# EAGLE library part NKK_4PDT (library Sam-lib_test)
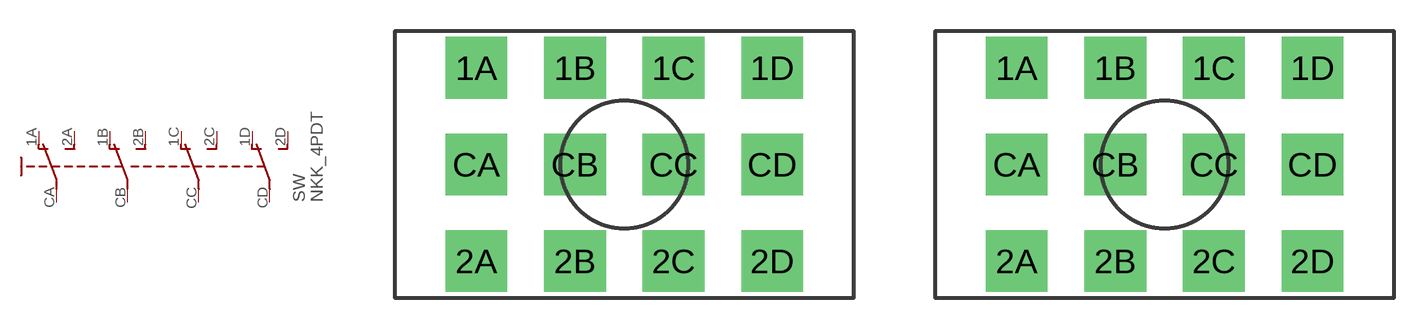
[diagram p2: symbol with the pads of NKK_4PDT; footprints NKK_4PDT, NKK_4PDT_PINS]

Designator prefix SW

## NKK_4PDTLUGS  [NKK_4PDT]
1A  1A  pas
1B  1B  pas
1C  1C  pas
1D  1D  pas
2A  2A  pas
2B  2B  pas
2C  2C  pas
2D  2D  pas
CA  CA  pas
CB  CB  pas
CC  CC  pas
CD  CD  pas

## NKK_4PDTPINS  [NKK_4PDT_PINS]
Pads as for NKK_4PDT

## Footprint NKK_4PDT (pad centres in mm)
TOGGLE SWITCH distributor RS Components
drill 2 pad 3 square: 1A -7.2,4.7; 1B -2.4,4.7; 1C 2.4,4.7; 1D 7.2,4.7; 2A -7.2,-4.7; 2B -2.4,-4.7; 2C 2.4,-4.7; 2D 7.2,-4.7; CA -7.2,0; CB -2.4,0; CC 2.4,0; CD 7.2,0

## Footprint NKK_4PDT_PINS (pad centres in mm)
TOGGLE SWITCH distributor RS Components
drill 2 pad 3 square: 1A -7.2,4.7; 1B -2.4,4.7; 1C 2.4,4.7; 1D 7.2,4.7; 2A -7.2,-4.7; 2B -2.4,-4.7; 2C 2.4,-4.7; 2D 7.2,-4.7; CA -7.2,0; CB -2.4,0; CC 2.4,0; CD 7.2,0